# EAGLE library part 39-30-?20? (library con-molex-mini-fit)
HEADER
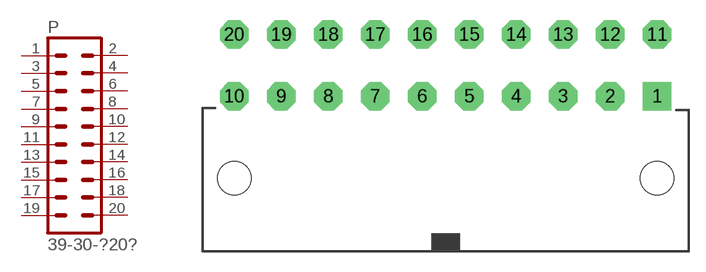
[diagram p7: symbol with the pads of 39-30-?20?; footprint 39-30-?20?]

Designator prefix P

## 39-30-20  [39-30-?20?]
1  1  pas
2  2  pas
3  3  pas
4  4  pas
5  5  pas
6  6  pas
7  7  pas
8  8  pas
9  9  pas
10  10  pas
11  11  pas
12  12  pas
13  13  pas
14  14  pas
15  15  pas
16  16  pas
17  17  pas
18  18  pas
19  19  pas
20  20  pas

## Footprint 39-30-?20? (pad centres in mm)
HEADER
drill 1.422 pad 2.54 square: 1 18.86,0
drill 1.422 pad 2.54 octagon: 2 14.668,0; 3 10.477,0; 4 6.287,0; 5 2.095,0; 6 -2.095,0; 7 -6.287,0; 8 -10.477,0; 9 -14.668,0; 10 -18.86,0; 11 18.86,5.512; 12 14.668,5.512; 13 10.477,5.512; 14 6.287,5.512; 15 2.095,5.512; 16 -2.095,5.512; 17 -6.287,5.512; 18 -10.477,5.512; 19 -14.668,5.512; 20 -18.86,5.512
hole 3 at -18.86,-7.3
hole 3 at 18.86,-7.3